# EAGLE library part JUMPER_2X4 (library bao19)
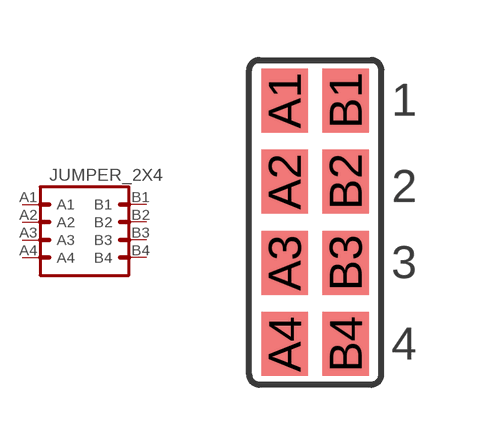
[diagram p12: symbol with the pads of JUMPER_SOLDER_2X4; footprint JUMPER_SOLDER_2X4]

Designator prefix -

## JUMPER_2X4_SOLDER (NHPREF: notacomponent; POPULATE: FALSE)  [JUMPER_SOLDER_2X4]
A1  A1  pas
A2  A2  pas
A3  A3  pas
A4  A4  pas
B1  B1  pas
B2  B2  pas
B3  B3  pas
B4  B4  pas

## Footprint JUMPER_SOLDER_2X4 (pad centres in mm)
smd 1.168 x 1.6: A1 -0.762,3.048; A2 -0.762,1.016; A3 -0.762,-1.016; A4 -0.762,-3.048; B1 0.762,3.048; B2 0.762,1.016; B3 0.762,-1.016; B4 0.762,-3.048